# EAGLE library part LTC4332 (library deiring-components)
SPI Extender Over Rugged Differential Link
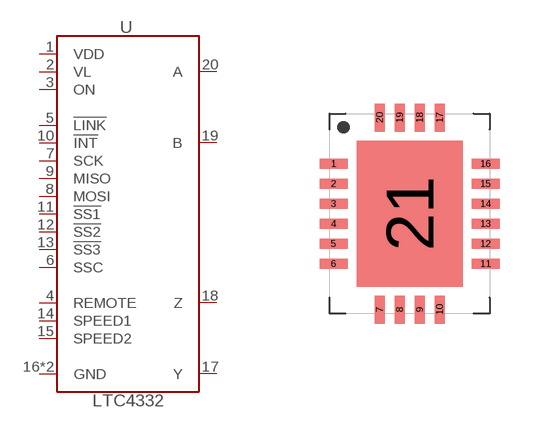
[diagram p26: symbol with the pads of QFN-20-EP; footprint QFN-20-EP]

Designator prefix U

## LTC4332-QFN-20-EP (LCSC: C688166; MF: Analog Devices; MPN: LTC4332CUFD#TRPBF; VALUE: LTC4332)  [QFN-20-EP]
1  VDD  pwr
2  VL  pwr
3  ON
4  REMOTE
5  !LINK
6  SSC
7  SCK
8  MOSI
9  MISO
10  !INT
11  !SS1
12  !SS2
13  !SS3
14  SPEED1
15  SPEED2
16  GND  pwr
17  Y
18  Z
19  B
20  A
21  GND  pwr

## Footprint QFN-20-EP (pad centres in mm)
smd 0.7 x 0.25: 1 -1.9,1.25; 2 -1.9,0.75; 3 -1.9,0.25; 4 -1.9,-0.25; 5 -1.9,-0.75; 6 -1.9,-1.25; 11 1.9,-1.25; 12 1.9,-0.75; 13 1.9,-0.25; 14 1.9,0.25; 15 1.9,0.75; 16 1.9,1.25
smd 0.25 x 0.7: 7 -0.75,-2.4; 8 -0.25,-2.4; 9 0.25,-2.4; 10 0.75,-2.4; 17 0.75,2.4; 18 0.25,2.4; 19 -0.25,2.4; 20 -0.75,2.4
smd 2.65 x 3.65: 21 0,0